# Altium schematic symbol library Schlib1.SchLib: 16 symbols
Pins are listed as number, name and electrical type; pins without a type are passive.

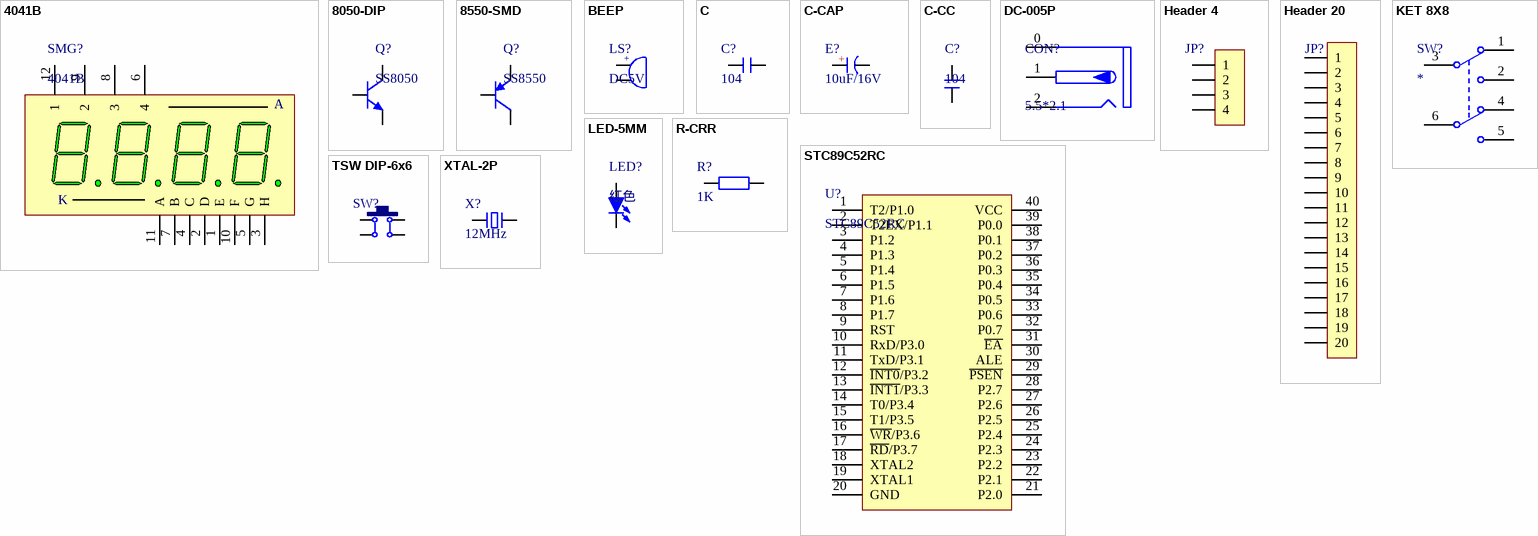
[diagram p0: symbols 4041B to XTAL-2P]

## 4041B
designator SMG?
0.4寸4位共阳数码管; 版权归属: 源创客; BOM名称: 0.4寸4位共阳; 学习资源: www.ooocke.com
footprint SMG 0.4-4P (40.5*16*7mm(长宽厚))
pins: 1 E "Anode", 2 D "Anode", 3 H "Anode", 4 C "Anode", 5 G "Anode", 6 4 "Cathode", 7 B "Anode", 8 3 "Anode", 9 2 "Anode", 10 F "Anode", 11 A "Anode", 12 1 "Cathode"
text: K

## 8050-DIP
designator Q?, comment SS8050
高频放大-NPN型; 版权归属: 源创客; 属性: 40V 1.5A 1W 100MHZ; BOM名称: 高频放大-NPN型; 学习资源: www.ooocke.com
footprint TO92A (92晶体管)
footprint TO92B (92晶体管)
pins: 1 E, 2 B, 3 C

## 8550-SMD
designator Q?, comment SS8550
高频放大-PNP型; 版权归属: 源创客; 属性: 40V 1.5A 1W 100MHZ; BOM名称: 高频放大-PNP型; 学习资源: www.ooocke.com
footprint SOT23-3M (3x1.3x1mm(长宽高))
footprint SOT23-3L (3x1.3x1mm(长宽高))
pins: 1 B, 2 E, 3 C

## BEEP
designator LS?, comment DC5V
蜂鸣器; 版权归属: 源创客; BOM名称: 蜂鸣器; 学习资源: www.ooocke.com
footprint BEEP 7.6X12X9.5 (6.5*12*9.5mm(脚距,直径,高度))
pins: 1, 2
text: +

## C
designator C?, comment 104
无极性贴片电容; 版权归属: 源创客; BOM名称: 无极性贴片电容; 学习资源: www.ooocke.com
footprint C 0201_L (无极性贴片电容)
footprint C 0402_L (无极性贴片电容)
footprint C 0603_L (无极性贴片电容)
footprint C 0805_M (无极性贴片电容)
footprint C 1206_L (无极性贴片电容)
footprint C 1210_L (无极性贴片电容)
footprint C 1808_L (无极性贴片电容)
footprint C 1812_L (无极性贴片电容)
footprint C 1825_L (无极性贴片电容)
footprint C 2225_L (无极性贴片电容)
footprint C 0201_M (无极性贴片电容)
footprint C 0402_M (无极性贴片电容)
footprint C 0603_M (无极性贴片电容)
footprint C 1206_M (无极性贴片电容)
footprint C 1210_M (无极性贴片电容)
footprint C 1808_M (无极性贴片电容)
footprint C 1812_M (无极性贴片电容)
footprint C 1825_M (无极性贴片电容)
footprint C 2225_M (无极性贴片电容)
pins: 1, 2

## C-CAP
designator E?, comment 10uF/16V
直插电解电容; 版权归属: 源创客; BOM名称: 直插电解电容; 学习资源: www.ooocke.com
footprint CAP 2.0*5*11 - GD (脚距2mm直径5mm高度11mm)
footprint CAP 1.5*4*8 - BK (脚距1.5mm直径4mm高度8mm)
footprint CAP 1.5*4*8 - GD (脚距1.5mm直径4mm高度8mm)
footprint CAP 1.5*4*8-H (脚距1.5mm直径4mm高度8mm)
footprint CAP 1.5*4*8-H - BK (脚距1.5mm直径4mm高度8mm)
footprint CAP 1.5*4*8-H - GD (脚距1.5mm直径4mm高度8mm)
footprint CAP 2.0*5*11 (脚距2mm直径5mm高度11mm)
footprint CAP 2.0*5*11 - BK (脚距2mm直径5mm高度11mm)
footprint CAP 2.0*5*11-H (脚距2mm直径5mm高度11mm)
footprint CAP 2.0*5*11-H - BK (脚距2mm直径5mm高度11mm)
footprint CAP 2.0*5*11-H - GD (脚距2mm直径5mm高度11mm)
footprint CAP 2.5*5*11 (脚距2.5mm直径5mm高度11mm)
footprint CAP 2.5*5*11 - BK (脚距2.5mm直径5mm高度11mm)
footprint CAP 2.5*5*11 - GD (脚距2.5mm直径5mm高度11mm)
footprint CAP 2.5*5*11-H (脚距2.5mm直径5mm高度11mm)
footprint CAP 2.5*5*11-H - BK (脚距2.5mm直径5mm高度11mm)
footprint CAP 2.5*5*11-H - GD (脚距2.5mm直径5mm高度11mm)
footprint CAP 2.5*6.3*7 (脚距2.5mm直径6.3mm高度7mm)
footprint CAP 2.5*6.3*7 - BK (脚距2.5mm直径6.3mm高度7mm)
footprint CAP 2.5*6.3*7 - GD (脚距2.5mm直径6.3mm高度7mm)
footprint CAP 2.5*6.3*7-H (脚距2.5mm直径6.3mm高度7mm)
footprint CAP 2.5*6.3*7-H - BK (脚距2.5mm直径6.3mm高度7mm)
footprint CAP 2.5*6.3*7-H - GD (脚距2.5mm直径6.3mm高度7mm)
footprint CAP 2.5*6.3*11.2 (脚距2.5mm直径6.3mm高度11.2mm)
footprint CAP 2.5*6.3*11.2 - BK (脚距2.5mm直径6.3mm高度11.2mm)
footprint CAP 2.5*6.3*11.2 - GD (脚距2.5mm直径6.3mm高度11.2mm)
footprint CAP 2.5*6.3*11.2-H (脚距2.5mm直径6.3mm高度11.2mm)
footprint CAP 2.5*6.3*11.2-H - BK (脚距2.5mm直径6.3mm高度11.2mm)
footprint CAP 2.5*6.3*11.2-H - GD (脚距2.5mm直径6.3mm高度11.2mm)
footprint CAP 3.5*8*11.5 (脚距3.5mm直径8mm高度11.5mm)
footprint CAP 3.5*8*11.5 - BK (脚距3.5mm直径8mm高度11.5mm)
footprint CAP 3.5*8*11.5 - GD (脚距3.5mm直径8mm高度11.5mm)
footprint CAP 3.5*8*11.5-H (脚距3.5mm直径8mm高度11.5mm)
footprint CAP 3.5*8*11.5-H - BK (脚距3.5mm直径8mm高度11.5mm)
footprint CAP 3.5*8*11.5-H - GD (脚距3.5mm直径8mm高度11.5mm)
footprint CAP 5.0*10*12.5 (脚距5mm直径10mm高度12.5mm)
footprint CAP 5.0*10*12.5 - BK (脚距5mm直径10mm高度12.5mm)
footprint CAP 5.0*10*12.5 - GD (脚距5mm直径10mm高度12.5mm)
footprint CAP 5.0*10*12.5-H (脚距5mm直径10mm高度12.5mm)
footprint CAP 5.0*10*12.5-H - BK (脚距5mm直径10mm高度12.5mm)
footprint CAP 5.0*10*12.5-H - GD (脚距5mm直径10mm高度12.5mm)
footprint CAP 5.0*10*16 (脚距5mm直径10mm高度16mm)
footprint CAP 5.0*10*16 - BK (脚距5mm直径10mm高度16mm)
footprint CAP 5.0*10*16 - GD (脚距5mm直径10mm高度16mm)
footprint CAP 5.0*10*16-H (脚距5mm直径10mm高度16mm)
footprint CAP 5.0*10*16-H - BK (脚距5mm直径10mm高度16mm)
footprint CAP 5.0*10*16-H - GD (脚距5mm直径10mm高度16mm)
footprint CAP 5.0*10*20 (脚距5mm直径10mm高度20mm)
footprint CAP 5.0*10*20 - BK (脚距5mm直径10mm高度20mm)
footprint CAP 5.0*10*20 - GD (脚距5mm直径10mm高度20mm)
footprint CAP 5.0*10*20-H (脚距5mm直径10mm高度20mm)
footprint CAP 5.0*10*20-H - BK (脚距5mm直径10mm高度20mm)
footprint CAP 5.0*10*20-H - GD (脚距5mm直径10mm高度20mm)
footprint CAP 5.0*12.5*20 (脚距5mm直径12.5mm高度20mm)
footprint CAP 5.0*12.5*20 - BK (脚距5mm直径12.5mm高度20mm)
footprint CAP 5.0*12.5*20 - GD (脚距5mm直径12.5mm高度20mm)
footprint CAP 5.0*12.5*20-H (脚距5mm直径12.5mm高度20mm)
footprint CAP 5.0*12.5*20-H - BK (脚距5mm直径12.5mm高度20mm)
footprint CAP 5.0*12.5*20-H - GD (脚距5mm直径12.5mm高度20mm)
footprint CAP 5.0*12.5*25 (脚距5mm直径12.5mm高度25mm)
footprint CAP 5.0*12.5*25 - BK (脚距5mm直径12.5mm高度25mm)
footprint CAP 5.0*12.5*25 - GD (脚距5mm直径12.5mm高度25mm)
footprint CAP 5.0*12.5*25-H (脚距5mm直径12.5mm高度25mm)
footprint CAP 5.0*12.5*25-H - BK (脚距5mm直径12.5mm高度25mm)
footprint CAP 5.0*12.5*25-H - GD (脚距5mm直径12.5mm高度25mm)
footprint CAP 7.5*16*25 (脚距7.5mm直径16mm高度25mm)
footprint CAP 7.5*16*25 - BK (脚距7.5mm直径16mm高度25mm)
footprint CAP 7.5*16*25 - GD (脚距7.5mm直径16mm高度25mm)
footprint CAP 7.5*16*25-H (脚距7.5mm直径16mm高度25mm)
footprint CAP 7.5*16*25-H - BK (脚距7.5mm直径16mm高度25mm)
footprint CAP 7.5*16*25-H - GD (脚距7.5mm直径16mm高度25mm)
footprint CAP 7.5*16*31.5 (脚距7.5mm直径16mm高度31.5mm)
footprint CAP 7.5*16*31.5 - BK (脚距7.5mm直径16mm高度31.5mm)
footprint CAP 7.5*16*31.5 - GD (脚距7.5mm直径16mm高度31.5mm)
footprint CAP 7.5*16*31.5-H (脚距7.5mm直径16mm高度31.5mm)
footprint CAP 7.5*16*31.5-H - BK (脚距7.5mm直径16mm高度31.5mm)
footprint CAP 7.5*16*31.5-H - GD (脚距7.5mm直径16mm高度31.5mm)
footprint CAP 7.5*18*35.5 (脚距7.5mm直径18mm高度35.5mm)
footprint CAP 7.5*18*35.5 - BK (脚距7.5mm直径18mm高度35.5mm)
footprint CAP 7.5*18*35.5 - GD (脚距7.5mm直径18mm高度35.5mm)
footprint CAP 7.5*18*35.5-H (脚距7.5mm直径18mm高度35.5mm)
footprint CAP 7.5*18*35.5-H - BK (脚距7.5mm直径18mm高度35.5mm)
footprint CAP 7.5*18*35.5-H - GD (脚距7.5mm直径18mm高度35.5mm)
footprint CAP 10*22*31.5 (脚距10mm直径22mm高度31.5mm)
footprint CAP 10*22*31.5 - BK (脚距10mm直径22mm高度31.5mm)
footprint CAP 10*22*31.5 - GD (脚距10mm直径22mm高度31.5mm)
footprint CAP 10*22*40 (脚距10mm直径22mm高度40mm)
footprint CAP 10*22*40 - BK (脚距10mm直径22mm高度40mm)
footprint CAP 10*22*40 - GD (脚距10mm直径22mm高度40mm)
pins: 1 A, 2 K
text: +

## C-CC
designator C?, comment 104
直插瓷片电容; 版权归属: 源创客; BOM名称: 直插瓷片电容; 学习资源: www.ooocke.com
footprint CC 2.2*5 (脚距2.2mm直径5mm)
footprint CC 2.2*5 (脚距2.2mm直径5mm)
pins: 1, 2

## DC-005P
designator CON?, comment 5.5*2.1
带屏蔽DC电源接口; 版权归属: 源创客; BOM名称: 带屏蔽DC电源接口; 学习资源: www.ooocke.com
footprint DC-005 (5.5*2.1mm，DC30V,2.5A)
pins: 0 (power), 1 (power), 2 (power)

## Header 4
designator JP?, comment HDR-1X4  (value not drawn)
4P接插件; 版权归属: 源创客; BOM名称: 4P接插件; 学习资源: www.ooocke.com
footprint XH2.54-WI-4P (接插件，4P)
footprint XH2.54-LI-4P (接插件，4P)
footprint HDR2.54-LI-4P (排针，4脚)
footprint HDR2.54-M-LI-4P (排母，4脚)
footprint HDR2.54-WI-4P (弯脚排针，4脚)
footprint HDR2.54-WS-4P (4P卧式贴片排针2.54)
footprint HDR2.54-Y-LI-4P (圆孔排母，4脚)
footprint HDR2.54-M-WS-4P (4P卧式贴片排母2.54)
footprint KF2510-LI-4P (接插件/2A)
footprint XH2.54-WS-4P (长：15mm，宽：8mm，高：6.1mm)
footprint XH2.54-LS-4P (长：15mm，宽：6mm，高：8.3mm)
footprint KF2EDGK-2.54-LI-4P (长：12.06mm，宽：8.1mm，高：10.1mm)
footprint KF2EDGK-2.54-WI-4P (长：12.06mm，宽：10.1mm，高：8.1mm)
pins: 1, 2, 3, 4

## Header 20
designator JP?, comment HDR-1X20  (value not drawn)
20P接插件; 版权归属: 源创客; BOM名称: 20P接插件; 学习资源: www.ooocke.com
footprint HDR2.54-LI-20P (排针，20脚)
footprint HDR2.54-M-LI-20P (排母，20脚)
footprint HDR2.54-WI-20P (弯脚排针，20脚)
footprint HDR2.54-WS-20P (20P卧式贴片排针2.54)
footprint HDR2.54-Y-LI-20P (圆孔排母，20脚)
footprint HDR2.54-M-WS-20P (20P卧式贴片排母2.54)
pins: 1, 2, 3, 4, 5, 6, 7, 8, 9, 10, 11, 12, 13, 14, 15, 16, 17, 18, 19, 20

## KET 8X8
designator SW?
8*8自锁开关; 版权归属: 源创客; BOM名称: 8*8自锁开关; 学习资源: www.ooocke.com
footprint KFT DIP-8X8 (自锁开关，规格：8*8mm)
pins: 1 NC1, 2 COM2, 3 NO1, 4 NO2, 5 COM2, 6 NC2

## LED-5MM
designator LED?, comment 红色
5mm插件LED; 版权归属: 源创客; BOM名称: 5mm插件LED; 学习资源: www.ooocke.com
footprint LED 5MM-R (红色5mm直插LED)
footprint LED 5MM-Y (黄色5mm直插LED)
footprint LED 5MM-W (白色5mm直插LED)
footprint LED 5MM-YC (橙色5mm直插LED)
pins: 1 A, 2 K

## R-CRR
designator R?, comment 1K
直插色环电阻; BOM名称: 色环电阻; 版权归属: 源创客; 学习资源: www.ooocke.com
footprint RS 1/2W (直插色环电阻，脚距12.5mm，直径3mm)
footprint RS 1/2W-V4 (直插色环电阻，脚距4mm，直径3mm)
footprint RS 1/4W (直插色环电阻，脚距9mm，直径2.3mm)
footprint RS 1/4W-V3 (直插色环电阻，脚距3mm，直径2.3mm)
footprint RS 1/8W (直插色环电阻，脚距6mm，直径1.5mm)
footprint RS 1/8W-V2 (直插色环电阻，脚距2mm，直径1.5mm)
footprint RS 1W (直插色环电阻，脚距15mm，直径4mm)
footprint RS 1W-F5 (直插色环电阻，脚距15mm，直径4mm，浮空5mm)
footprint RS 1W-V5 (直插色环电阻，脚距5mm，直径4mm)
footprint RS 2W (直插色环电阻，脚距20mm，直径5mm)
footprint RS 2W-F5 (直插色环电阻，脚距20mm，直径5mm，浮空5mm)
footprint RS 2W-V6 (直插色环电阻，脚距6mm，直径5mm)
footprint RS 3W (直插色环电阻，脚距25mm，直径6mm)
footprint RS 3W-F5 (直插色环电阻，脚距25mm，直径6mm，浮空5mm)
footprint RS 3W-V7 (直插色环电阻，脚距7mm，直径6mm)
footprint RS 5W (直插色环电阻，脚距30mm，直径8mm)
footprint RS 5W-F5 (直插色环电阻，脚距30mm，直径8mm，浮空5mm)
footprint RS 5W-V8 (直插色环电阻，脚距8mm，直径8mm)
pins: 1, 2

## STC89C52RC
designator U?
STC单片机; 版权归属: 源创客; BOM名称: STC单片机; 学习资源: www.ooocke.com
footprint DIP40-600 (52*15.2*4mm(长宽高))
pins: 1 T2/P1.0, 2 T2EX/P1.1, 3 P1.2, 4 P1.3, 5 P1.4, 6 P1.5, 7 P1.6, 8 P1.7, 9 RST, 10 RxD/P3.0, 11 TxD/P3.1, 12 ~{INT0}/P3.2, 13 ~{INT1}/P3.3, 14 T0/P3.4, 15 T1/P3.5, 16 ~{WR}/P3.6, 17 ~{RD}/P3.7, 18 XTAL2, 19 XTAL1, 20 GND, 21 P2.0, 22 P2.1, 23 P2.2, 24 P2.3, 25 P2.4, 26 P2.5, 27 P2.6, 28 P2.7, 29 ~{PSEN}, 30 ALE, 31 ~{EA}, 32 P0.7, 33 P0.6, 34 P0.5, 35 P0.4, 36 P0.3, 37 P0.2, 38 P0.1, 39 P0.0, 40 VCC

## TSW DIP-6x6
designator SW?, comment 6x6x5  (value not drawn)
直插6x6轻触开关; 版权归属: 源创客; BOM名称: 直插6x6轻触开关; 学习资源: www.ooocke.com
footprint TSW DIP-6*6*5 (6*6*5mm)
footprint TSW DIP-6*6*4.3 (6*6*4.3mm)
footprint TSW DIP-6*6*9 (6*6*9mm)
footprint TSW DIP-6*6*5 (6*6*5mm)
footprint TSW DIP-6*6*7 (6*6*7mm)
footprint TSW DIP-6*6*8 (6*6*8mm)
footprint TSW DIP-6*6*10 (6*6*10mm)
footprint TSW DIP-6*6*11 (6*6*11mm)
footprint TSW DIP-6*6*12 (6*6*12mm)
footprint TSW DIP-6*6*13 (6*6*13mm)
footprint TSW DIP-6*6*14 (6*6*14mm)
footprint TSW DIP-6*6*15 (6*6*15mm)
pins: 1, 2, 3, 4

## XTAL-2P
designator X?, comment 12MHz
2脚无源脚晶振; 版权归属: 源创客; BOM名称: 2脚无源脚晶振; 学习资源: www.ooocke.com
footprint OSC HC-49S
footprint OSC 455E-LI (3.6mm*7mm*9mm(长*宽*高)  脚距5mm)
footprint OSC 455E-WI (3.6mm*7mm*9mm(长*宽*高)  脚距5mm)
footprint OSC 3215-2P (3.2*1.5*0.6mm(长宽高))
footprint OSC 5032-2P (5mm*3.2mm*0.8mm(长*宽*高))
footprint OSC 6035-2P (6mm*3.5mm*1mm(长*宽*高))
footprint OSC 7050-2P (7mm*5mm*1.3mm(长*宽*高))
footprint OSC 8045-2P (8mm*4.5mm*1.8mm(长*宽*高))
footprint OSC-2x6-LI (脚距：1.6mm)
footprint OSC-2x6-WI-A (脚距：1.6mm)
footprint OSC-2x6-WI-B (脚距：1.6mm)
footprint OSC-2x6-WS (脚距：1.6mm)
footprint OSC-3x8-LI (脚距：2mm)
footprint OSC-3x8-WI-A (脚距：2mm)
footprint OSC-3x8-WI-B (脚距：2mm)
footprint OSC-3x8-WS (脚距：2mm)
footprint OSC-3x10-LI (脚距：2mm)
footprint OSC-3x10-WI-A (脚距：2mm)
footprint OSC-3x10-WI-B (脚距：2mm)
footprint OSC-3x10-WS (脚距：2mm)
footprint OSC HC-49SMD
footprint OSC HC-49U
footprint OSC UM-1
footprint OSC UM-5
pins: 1, 2